# Altium footprint library Datalogger.PcbLib: 55 footprints (part 3 of 4)
Each footprint in its own frame and in the unit in brackets; x right, y up, seen from the top. Pads: shape width x height; smd on the part's side, far side on the other; paste and mask are expansions set on the pad; w line width, h text height; cw(c..) or ccw(c..) is an arc to the next point about the centre after c.
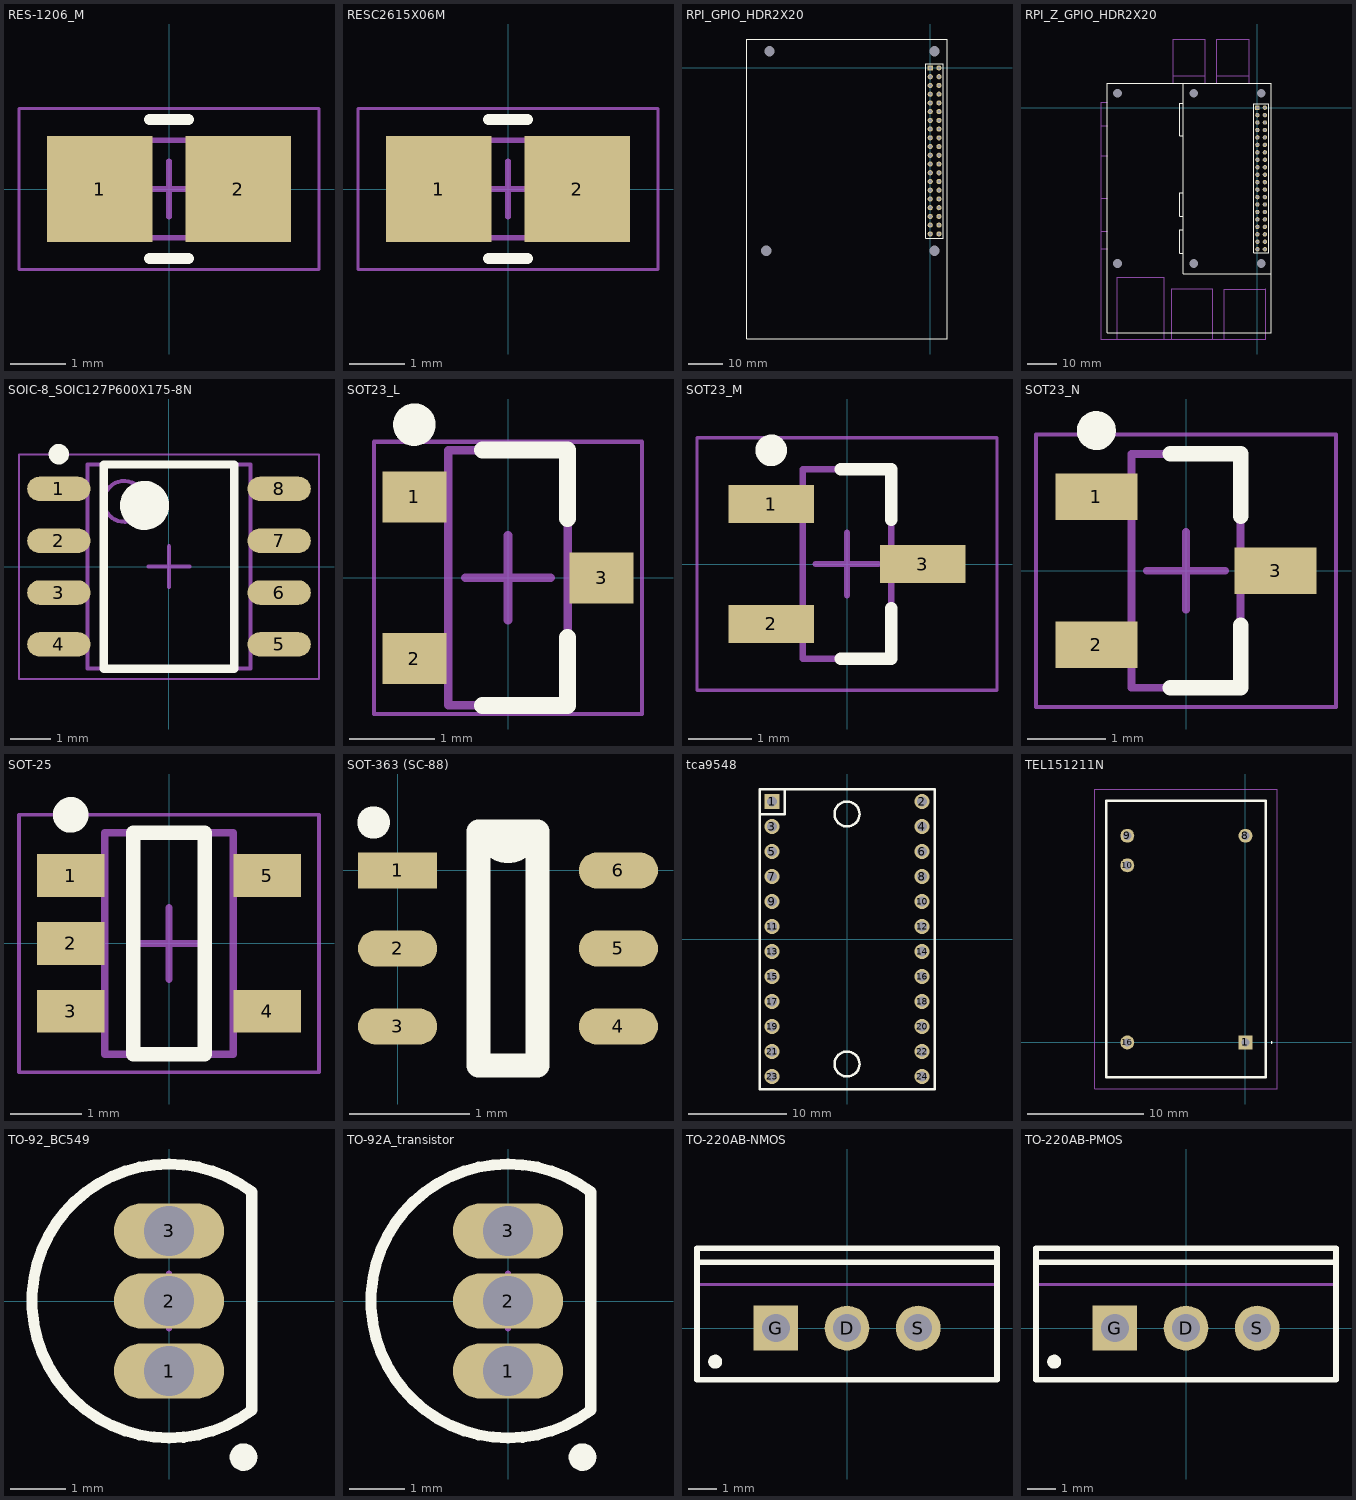
[diagram p2: the footprints below, top view; thin cyan lines are the x and y axes]

## RES-1206_M [mm] "Chip Resistor, 2-Leads, Body 3.2x1.6mm, IPC Low Density, 0805 Compliant"
height 0.65
pads (2):
  rect 1.9x1.9 smd: 1(-1.25,0) 2(1.25,0)
Top Overlay:
  lines w0.2: -0.35,-1.25 0.35,-1.25 ; -0.35,1.25 0.35,1.25
Top 3D Body (Mech13):
  lines w0.1: -1.65,-0.875 -1.65,0.875 1.65,0.875 1.65,-0.875 -1.65,-0.875
Top Courtyard:
  lines w0.05: -2.7,-1.45 -2.7,1.45 2.7,1.45 2.7,-1.45 -2.7,-1.45
Top Component Center:
  lines w0.1: -0.5,0 0.5,0 ; 0,-0.5 0,0.5
3D body "RESC2614X06M.step": height 0.65, standoff 0, extent -1.65,-0.875 1.65,0.875

## RESC2615X06M [mm] "Chip Resistor, 2-Leads, Body 2.65x1.48mm, IPC Low Density"
height 0.65
pads (2):
  rect 1.9x1.9 smd: 1(-1.25,0) 2(1.25,0)
Top Overlay:
  lines w0.2: -0.35,-1.25 0.35,-1.25 ; -0.35,1.25 0.35,1.25
Top 3D Body (Mech13):
  lines w0.1: -1.65,-0.875 1.65,-0.875 1.65,0.875 -1.65,0.875 -1.65,-0.875
Top Courtyard:
  lines w0.05: -2.7,-1.45 2.7,-1.45 2.7,1.45 -2.7,1.45 -2.7,-1.45
Top Component Center:
  lines w0.1: -0.5,0 0.5,0 ; 0,-0.5 0,0.5
3D body "RESC2615X06M.step": height 0.65, standoff 0, extent -1.65,-0.875 1.65,0.875

## RPI_GPIO_HDR2X20 [mm] "Connector; Header; 20x2 Position"
pads (44):
  round 1.524 hole 3 unplated: 0(-47.73,-53.13) 0(-46.73,4.87) 0(1.27,-53.13) 0(1.27,4.87)
  rect 1.5x1.5 hole 0.9: 1(0,0)
  round 1.5 hole 0.9: 2(2.54,0) 3(0,-2.54) 4(2.54,-2.54) 5(0,-5.08) 6(2.54,-5.08) 7(0,-7.62) 8(2.54,-7.62) 9(0,-10.16) 10(2.54,-10.16) 11(0,-12.7) 12(2.54,-12.7) 13(0,-15.24) 14(2.54,-15.24) 15(0,-17.78) 16(2.54,-17.78) 17(0,-20.32) 18(2.54,-20.32) 19(0,-22.86) 20(2.54,-22.86) 21(0,-25.4) 22(2.54,-25.4) 23(0,-27.94) 24(2.54,-27.94) 25(0,-30.48) 26(2.54,-30.48) 27(0,-33.02) 28(2.54,-33.02) 29(0,-35.56) 30(2.54,-35.56) 31(0,-38.1) 32(2.54,-38.1) 33(0,-40.64) 34(2.54,-40.64) 35(0,-43.18) 36(2.54,-43.18) 37(0,-45.72) 38(2.54,-45.72) 39(0,-48.26) 40(2.54,-48.26)
Top Overlay:
  lines w0.2: -1.27,-49.53 -1.27,1.27 3.81,1.27 3.81,-49.53 -1.27,-49.53
  lines w0.254: -53.438,-78.841 -53.438,8.43 5.02,8.43 5.02,-78.841 -53.438,-78.841
Top Designator (Mech11):
  text "1" at -2.73,0 h1.27
  text "2" at 4.27,0 h1.27
  text "40" at 3.81,-49.13 h1.27
  text "39" at -3.73,-49.13 h1.27
3D body "raspberry_pi_3_b_plus.stp": height 26.7, standoff 6.68, extent -53.438,-78.841 5.02,8.43

## RPI_Z_GPIO_HDR2X20 [mm] "Connector; Header; 20x2 Position"
pads (46):
  round 1.524 hole 3 unplated: 0(-47.73,-53.13) 0(-47.73,4.87) 0(-21.73,-53.13) 0(-21.73,4.87) 0(1.27,-53.13) 0(1.27,4.87)
  rect 1.5x1.5 hole 0.9: 1(0,0)
  round 1.5 hole 0.9: 2(2.54,0) 3(0,-2.54) 4(2.54,-2.54) 5(0,-5.08) 6(2.54,-5.08) 7(0,-7.62) 8(2.54,-7.62) 9(0,-10.16) 10(2.54,-10.16) 11(0,-12.7) 12(2.54,-12.7) 13(0,-15.24) 14(2.54,-15.24) 15(0,-17.78) 16(2.54,-17.78) 17(0,-20.32) 18(2.54,-20.32) 19(0,-22.86) 20(2.54,-22.86) 21(0,-25.4) 22(2.54,-25.4) 23(0,-27.94) 24(2.54,-27.94) 25(0,-30.48) 26(2.54,-30.48) 27(0,-33.02) 28(2.54,-33.02) 29(0,-35.56) 30(2.54,-35.56) 31(0,-38.1) 32(2.54,-38.1) 33(0,-40.64) 34(2.54,-40.64) 35(0,-43.18) 36(2.54,-43.18) 37(0,-45.72) 38(2.54,-45.72) 39(0,-48.26) 40(2.54,-48.26)
Top Overlay:
  lines w0.127: -25.24,-41.63 -26.53,-41.63 -26.53,-49.63 -25.23,-49.63 ; -25.24,-37.03 -26.53,-37.03 -26.53,-29.03 -25.24,-29.03 ; -25.24,-9.53 -26.53,-9.53 -26.53,1.47 -25.23,1.47
  lines w0.2: -1.27,-49.53 -1.27,1.27 3.81,1.27 3.81,-49.53 -1.27,-49.53
  lines w0.254: -25.23,8.37 -51.23,8.37 -51.23,-76.63 4.77,-76.63 4.77,-56.63 ; -25.23,8.37 -25.23,-56.63 4.77,-56.63 ; -25.23,8.37 4.77,8.37 4.77,-56.63
Top Designator (Mech11):
  text "1" at -0.73,1.87 h1.27
  text "2" at 3.27,1.87 h1.27
  text "40" at 2.54,-51.13 h1.27
  text "39" at -4.73,-50.13 h1.27
Top Courtyard:
  lines w0.127: -53.46,-30.88 -51.24,-30.88 ; -53.45,1.77 -51.23,1.77 ; -53.448,-42.13 -51.24,-42.13 ; -53.438,-6.23 -51.23,-6.23 ; -53.438,1.75 -53.438,-78.841 2.77,-78.841 ; -53.43,-16.38 -51.21,-16.37 ; -53.418,-48.13 -51.21,-48.13 ; -47.73,-78.82 -47.73,-57.82 -31.742,-57.82 ; -31.73,-78.808 -31.73,-57.808 ; -29.23,-78.8 -29.23,-61.8 -15.26,-61.8 ; -28.73,8.37 -28.73,23.37 ; -28.73,10.87 -17.73,10.87 ; -28.72,23.38 -17.72,23.38 ; -17.73,8.37 -17.73,23.37 ; -15.23,-78.83 -15.23,-61.83 ; -13.83,8.37 -13.83,23.37 ; -13.83,10.87 -2.83,10.87 ; -13.82,23.38 -2.82,23.38 ; -11.23,-78.818 -11.23,-61.818 2.74,-61.818 ; -2.83,8.38 -2.83,23.38 ; 2.77,-78.788 2.77,-61.788
3D body "RapberryPiZero.STEP": height 13.35, standoff 8.9, extent -26.525,-56.63 4.705,8.37

## SOIC-8_SOIC127P600X175-8N [mm] "SOIC, 8-Leads, Body 4.90x3.90mm, Pitch 1.27mm, IPC Medium Density"
height 1.75
pads (8):
  oval 1.55x0.6 smd: 1(-2.7,1.905) 2(-2.7,0.635) 3(-2.7,-0.635) 4(-2.7,-1.905) 5(2.7,-1.905) 6(2.7,-0.635) 7(2.7,0.635) 8(2.7,1.905)
Top Overlay:
  circle w0.6: c-0.6,1.5 r0.3
  circle w0.25: c-2.7,2.755 r0.125
  lines w0.2: -1.6,-2.5 1.6,-2.5 1.6,2.5 -1.6,2.5 -1.6,-2.5
Top 3D Body (Mech13):
  circle w0.1: c-1.1,1.6 r0.5
  lines w0.1: -2,-2.5 2,-2.5 2,2.5 -2,2.5 -2,-2.5
Top Courtyard:
  lines w0.05: -3.675,-2.75 3.675,-2.75 3.675,2.75 -3.675,2.75 -3.675,-2.75
Top Component Center:
  lines w0.1: -0.5,0 0.5,0 ; 0,-0.5 0,0.5
3D body "SOIC-8_SOIC127P600X175-8N.step": height 1.75, standoff 0, extent -3,-2.5 3,2.5

## SOT23_L [mm] "SOT23, 3-Leads, Body 2.9x1.3 mm, Pitch 0.95 mm, IPC High Density"
height 1.1
pads (3):
  rect 0.75x0.6 smd: 1(-1.1,0.95) 2(-1.1,-0.95) 3(1.1,0)
Top Overlay:
  circle w0.25: c-1.1,1.8 r0.125
  lines w0.2: -0.3,-1.5 0.7,-1.5 0.7,-0.7 ; -0.3,1.5 0.7,1.5 0.7,0.7
Top 3D Body (Mech13):
  lines w0.1: -0.7,-1.5 -0.7,1.5 0.7,1.5 0.7,-1.5 -0.7,-1.5
Top Courtyard:
  lines w0.05: -1.575,-1.6 -1.575,1.6 1.575,1.6 1.575,-1.6 -1.575,-1.6
Top Component Center:
  lines w0.1: -0.5,0 0.5,0 ; 0,-0.5 0,0.5
3D body: height 1.1, standoff 0.1, extent -0.7,-1.5 0.7,1.5

## SOT23_M [mm] "SOT23, 3-Leads, Body 2.9x1.3 mm, Pitch 0.95 mm, IPC Low Density"
height 1.1
pads (3):
  rect 1.35x0.6 smd: 1(-1.2,0.95) 2(-1.2,-0.95) 3(1.2,0)
Top Overlay:
  circle w0.25: c-1.2,1.8 r0.125
  lines w0.2: -0.1,-1.5 0.7,-1.5 0.7,-0.7 ; -0.1,1.5 0.7,1.5 0.7,0.7
Top 3D Body (Mech13):
  lines w0.1: -0.7,-1.5 0.7,-1.5 0.7,1.5 -0.7,1.5 -0.7,-1.5
Top Courtyard:
  lines w0.05: -2.375,-2 2.375,-2 2.375,2 -2.375,2 -2.375,-2
Top Component Center:
  lines w0.1: -0.5,0 0.5,0 ; 0,-0.5 0,0.5
3D body: height 1.1, standoff 0.1, extent -0.7,-1.5 0.7,1.5

## SOT23_N [mm] "SOT23, 3-Leads, Body 2.9x1.3 mm, Pitch 0.95 mm, IPC Medium Density"
height 1.1
pads (3):
  rect 1.05x0.6 smd: 1(-1.15,0.95) 2(-1.15,-0.95) 3(1.15,0)
Top Overlay:
  circle w0.25: c-1.15,1.8 r0.125
  lines w0.2: -0.2,-1.5 0.7,-1.5 0.7,-0.7 ; -0.2,1.5 0.7,1.5 0.7,0.7
Top 3D Body (Mech13):
  lines w0.1: -0.7,-1.5 -0.7,1.5 0.7,1.5 0.7,-1.5 -0.7,-1.5
Top Courtyard:
  lines w0.05: -1.925,-1.75 -1.925,1.75 1.925,1.75 1.925,-1.75 -1.925,-1.75
Top Component Center:
  lines w0.1: -0.5,0 0.5,0 ; 0,-0.5 0,0.5
3D body: height 1.1, standoff 0.1, extent -0.7,-1.5 0.7,1.5

## SOT-25 [mm] "SOT25, 5-Leads, Body 2.90x2.70mm, Pitch 0.95mm, IPC Medium Density"
height 1.25
pads (5):
  rect 0.95x0.6 smd: 1(-1.375,0.95) 2(-1.375,0) 3(-1.375,-0.95) 4(1.375,-0.95) 5(1.375,0.95)
Top Overlay:
  circle w0.25: c-1.375,1.8 r0.125
  lines w0.2: -0.5,-1.55 -0.5,1.55 0.5,1.55 0.5,-1.55 -0.5,-1.55
Top 3D Body (Mech13):
  lines w0.1: -0.9,-1.55 0.9,-1.55 0.9,1.55 -0.9,1.55 -0.9,-1.55
Top Courtyard:
  lines w0.05: -2.1,-1.8 2.1,-1.8 2.1,1.8 -2.1,1.8 -2.1,-1.8
Top Component Center:
  lines w0.1: -0.5,0 0.5,0 ; 0,-0.5 0,0.5
3D body "SOT-25.step": height 1.25, standoff 0, extent -1.5,-1.55 1.5,1.55

## SOT-363 (SC-88) [mm]
pads (6):
  rect 0.66x0.3 smd: 1(0,0)
  oval 0.66x0.3 smd: 2(0,-0.65) 3(0,-1.3) 4(1.84,-1.3) 5(1.84,-0.65) 6(1.84,0)
Top Overlay:
  circle w0.25: c-0.2,0.4 r0.01
  lines w0.2: 0.675,-1.625 0.675,0.325 1.082,0.325 cw(c0.92,0.325) 0.757,0.325 1.165,0.325 1.165,-1.625 0.675,-1.625
3D body: height 1, standoff 0.1, extent 0.24,-1.75 1.595,0.455

## tca9548 [mil]
pads (24):
  rect 60x60 hole 40: 1(-300,550)
  round 60 hole 40: 2(300,550) 3(-300,450) 4(300,450) 5(-300,350) 6(300,350) 7(-300,250) 8(300,250) 9(-300,150) 10(300,150) 11(-300,50) 12(300,50) 13(-300,-50) 14(300,-50) 15(-300,-150) 16(300,-150) 17(-300,-250) 18(300,-250) 19(-300,-350) 20(300,-350) 21(-300,-450) 22(300,-450) 23(-300,-550) 24(300,-550)
Top Overlay:
  circle w10: c0,500 r50
  circle w10: c0,-500 r50
  lines w10: -350,500 -250,500 -250,600 ; -350,-600 350,-600 350,600 -350,600 -350,-600
Top Designator (Mech11):
  text "23" at -450,-600 h50
  text "24" at 400,-600 h50
  text "2" at 400,600 h50
  text "1" at -400,600 h50

## TEL151211N [mm] "TracoPower Tel 15-XXXXN Series footprint"
pads (5):
  rect 1.2x1.2 hole 0.7: 1(0,0)
  round 1.2 hole 0.7: 8(0,17.78) 9(-10.16,17.78) 10(-10.16,15.24) 16(-10.16,0)
Top Overlay:
  lines w0.1: 2.2,0 cw(c2.25,0) 2.3,0 cw(c2.25,0) 2.2,0
  lines w0.2: -11.96,-3 1.74,-3 1.74,20.8 -11.96,20.8 -11.96,-3
Top Courtyard:
  lines w0.1: -12.96,-4 2.74,-4 2.74,21.8 -12.96,21.8 -12.96,-4

## TO-92_BC549 [mm] "TO, Flat Index; 3 In-Line, Axial Leads; Body Dia. 4.5mm; Leads 0.51 x 0.48 mm (max)"
height 6.86
pads (3):
  oval 2x1 hole 0.9: 1(0,-1.27) 2(0,0) 3(0,1.27)
Top Overlay:
  circle w0.25: c1.35,-2.83 r0.125
  lines w0.2: 1.5,-1.98 cw(c0,0) 1.5,1.98 1.5,-1.98
Top 3D Body (Mech13):
  lines w0.1: 1.5,-1.98 cw(c0,0) 1.5,1.98 1.5,-1.98
Top Component Center:
  lines w0.1: -0.5,0 0.5,0 ; 0,-0.5 0,0.5
3D body: height 6.86, standoff 2.2, extent -2.485,-2.495 1.501,2.495

## TO-92A_transistor [mm] "TO, Flat Index; 3 In-Line, Axial Leads; Body Dia. 4.5mm; Leads 0.51 x 0.48 mm (max)"
height 6.86
pads (3):
  oval 2x1 hole 0.9: 1(0,-1.27) 2(0,0) 3(0,1.27)
Top Overlay:
  circle w0.25: c1.35,-2.83 r0.125
  lines w0.2: 1.5,-1.98 cw(c0,0) 1.5,1.98 1.5,-1.98
Top 3D Body (Mech13):
  lines w0.1: 1.5,-1.98 cw(c0,0) 1.5,1.98 1.5,-1.98
Top Component Center:
  lines w0.1: -0.5,0 0.5,0 ; 0,-0.5 0,0.5
3D body: height 6.86, standoff 2.2, extent -2.485,-2.495 1.501,2.495

## TO-220AB-NMOS [mm] "TO, Thru-Hole, Vertical, Heatsink Mounted; 3 In-Line Leads; Pitch 2.54 mm"
height 19.3
pads (3):
  round 1.6 hole 1: D(0,0) S(2.54,0)
  rect 1.6x1.6 hole 1: G(-2.54,0)
Top Overlay:
  circle w0.25: c-4.7,-1.2 r0.125
  lines w0.2: -5.35,2.35 5.35,2.35 ; -5.35,-1.85 5.35,-1.85 5.35,2.85 -5.35,2.85 -5.35,-1.85
Top Designator (Mech11):
  text "N" at -5,-0.5 h1.52
Top 3D Body (Mech13):
  lines w0.1: -5.35,1.55 5.35,1.55 ; -5.35,-1.85 -5.35,2.85 5.35,2.85 5.35,-1.85 -5.35,-1.85
Top Component Center:
  lines w0.1: -0.5,0 0.5,0 ; 0,-0.5 0,0.5
3D body: height 19.3, standoff 12.9, extent -5.349,1.551 5.349,2.849
3D body: height 12.9, standoff 4, extent -5.4,-1.9 5.4,2.9

## TO-220AB-PMOS [mm] "TO, Thru-Hole, Vertical, Heatsink Mounted; 3 In-Line Leads; Pitch 2.54 mm"
height 19.3
pads (3):
  round 1.6 hole 1: D(0,0) S(2.54,0)
  rect 1.6x1.6 hole 1: G(-2.54,0)
Top Overlay:
  circle w0.25: c-4.7,-1.2 r0.125
  lines w0.2: -5.35,2.35 5.35,2.35 ; -5.35,-1.85 -5.35,2.85 5.35,2.85 5.35,-1.85 -5.35,-1.85
Top Designator (Mech11):
  text "P" at -5,-0.5 h1.52
Top 3D Body (Mech13):
  lines w0.1: -5.35,1.55 5.35,1.55 ; -5.35,-1.85 5.35,-1.85 5.35,2.85 -5.35,2.85 -5.35,-1.85
Top Component Center:
  lines w0.1: -0.5,0 0.5,0 ; 0,-0.5 0,0.5
3D body: height 12.9, standoff 4, extent -5.4,-1.9 5.4,2.9
3D body: height 19.3, standoff 12.9, extent -5.349,1.551 5.349,2.849